# Altium schematic symbol library RES 4.3k 1_8W - 1%.Schlib: 1 symbol
Pins are listed as number, name and electrical type; pins without a type are passive.

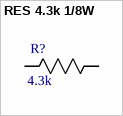
[diagram p0: symbol RES 4.3k 1/8W]

## RES 4.3k 1/8W
designator R?, comment 4.3k
RES SMD 4.3K OHM 1% 1/8W 0603; Power (Watts): 0.125W; Tolerance: 5%; Package: 0805; Value: 4.3k
footprint 0603
pins: 1 R1, 2 R2